# EAGLE library part TMM-120-XX-X-D (library con-samtec-tmm)
HEADER
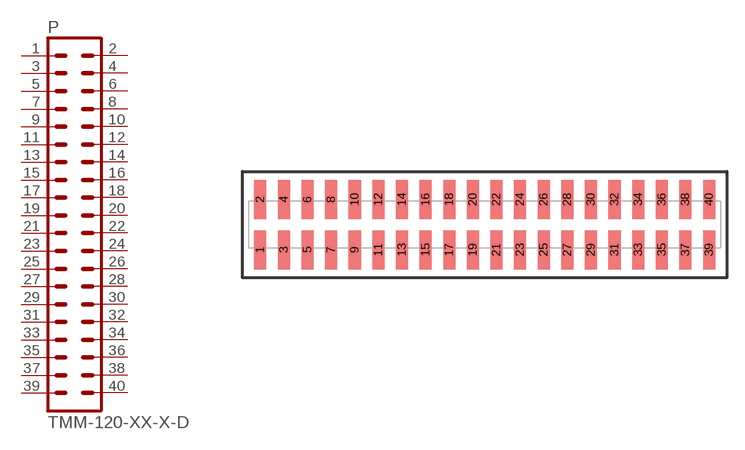
[diagram p17: symbol with the pads of TMM-120-XX-X-D; footprint TMM-120-XX-X-D]

Designator prefix P

## TMM-120-XX-X-D  [TMM-120-XX-X-D]
1  1  pas
2  2  pas
3  3  pas
4  4  pas
5  5  pas
6  6  pas
7  7  pas
8  8  pas
9  9  pas
10  10  pas
11  11  pas
12  12  pas
13  13  pas
14  14  pas
15  15  pas
16  16  pas
17  17  pas
18  18  pas
19  19  pas
20  20  pas
21  21  pas
22  22  pas
23  23  pas
24  24  pas
25  25  pas
26  26  pas
27  27  pas
28  28  pas
29  29  pas
30  30  pas
31  31  pas
32  32  pas
33  33  pas
34  34  pas
35  35  pas
36  36  pas
37  37  pas
38  38  pas
39  39  pas
40  40  pas

## Footprint TMM-120-XX-X-D (pad centres in mm)
HEADER
smd 1.02 x 3.3: 1 -19,-2.134; 2 -19,2.134; 3 -17,-2.134; 4 -17,2.134; 5 -15,-2.134; 6 -15,2.134; 7 -13,-2.134; 8 -13,2.134; 9 -11,-2.134; 10 -11,2.134; 11 -9,-2.134; 12 -9,2.134; 13 -7,-2.134; 14 -7,2.134; 15 -5,-2.134; 16 -5,2.134; 17 -3,-2.134; 18 -3,2.134; 19 -1,-2.134; 20 -1,2.134; 21 1,-2.134; 22 1,2.134; 23 3,-2.134; 24 3,2.134; 25 5,-2.134; 26 5,2.134; 27 7,-2.134; 28 7,2.134; 29 9,-2.134; 30 9,2.134; 31 11,-2.134; 32 11,2.134; 33 13,-2.134; 34 13,2.134; 35 15,-2.134; 36 15,2.134; 37 17,-2.134; 38 17,2.134; 39 19,-2.134; 40 19,2.134